# Altium footprint library 接口.PCBLIB: 266 footprints (part 5 of 17)
Each footprint in its own frame and in the unit in brackets; x right, y up, seen from the top. Pads: shape width x height; smd on the part's side, far side on the other; paste and mask are expansions set on the pad; w line width, h text height; cw(c..) or ccw(c..) is an arc to the next point about the centre after c.
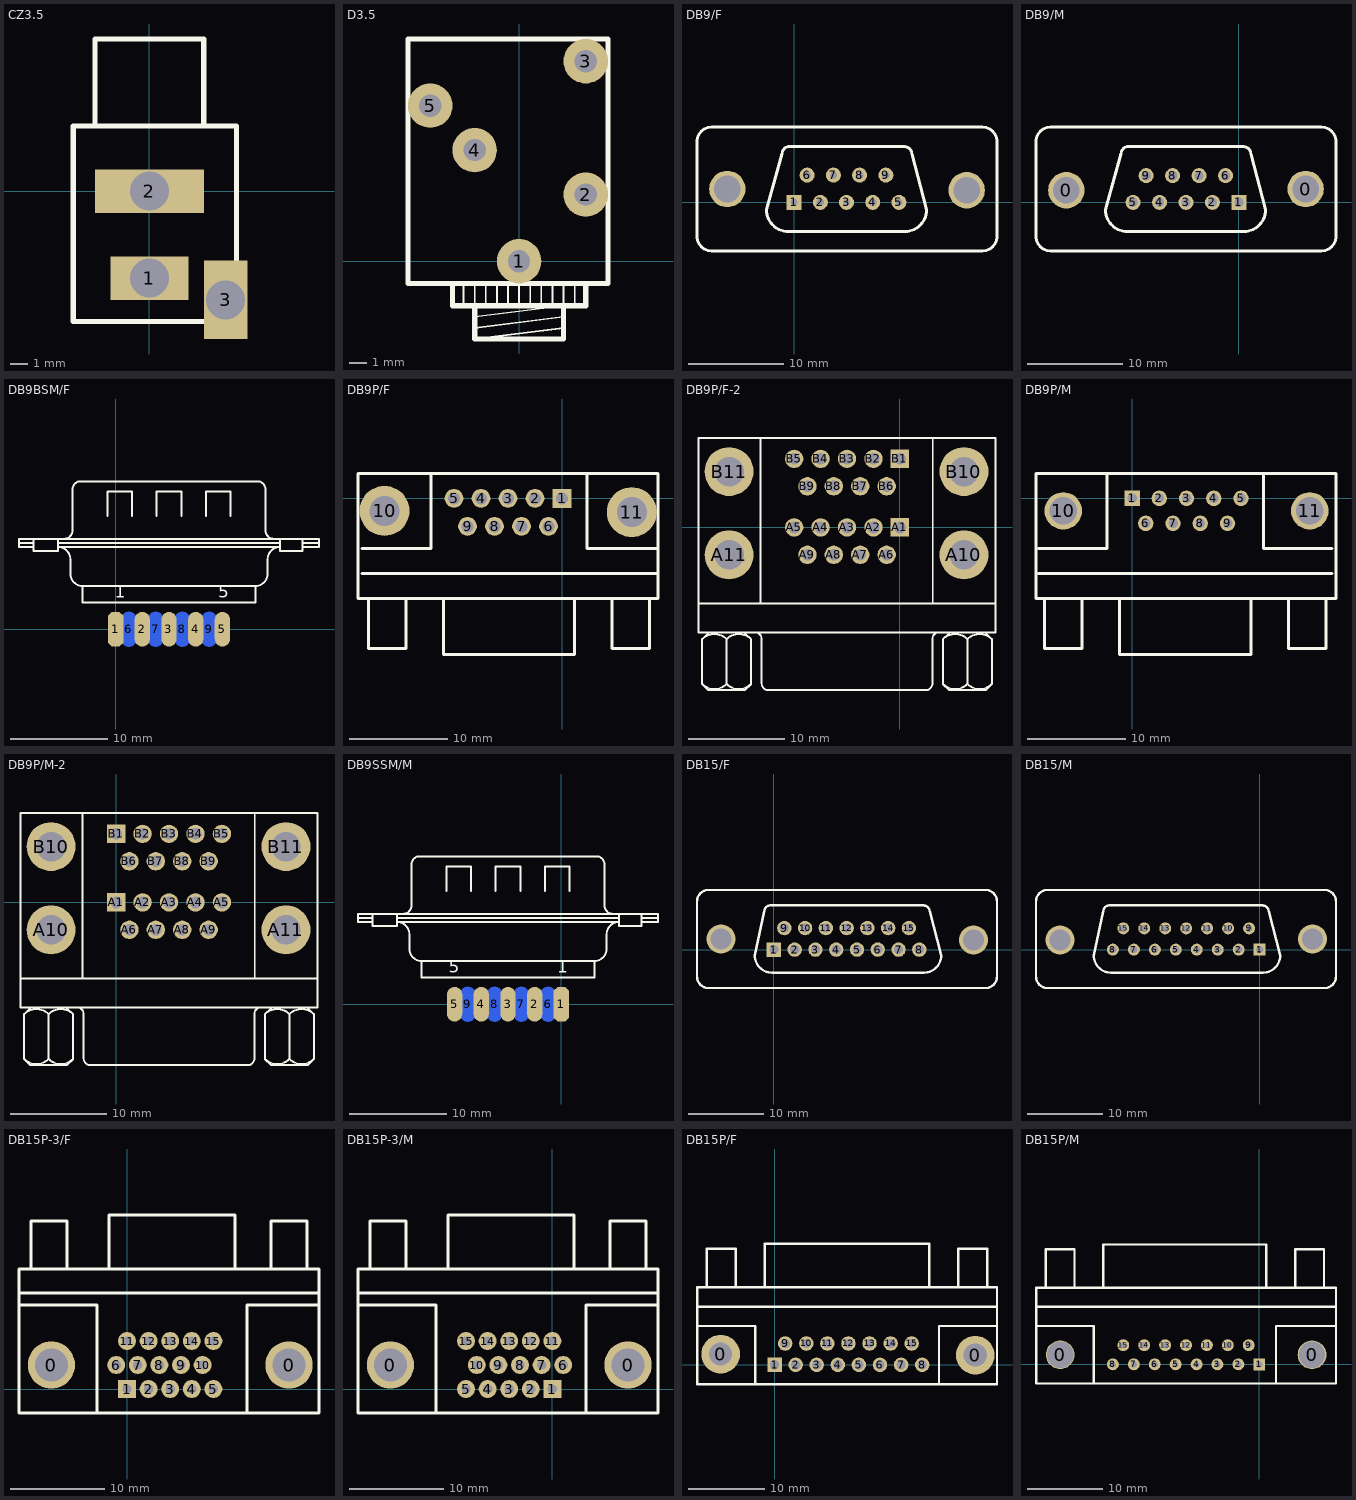
[diagram p4: the footprints below, top view; thin cyan lines are the x and y axes]

## CZ3.5 [mil]
pads (3):
  rect 180x100 hole 90: 1(0,-200)
  rect 250x100 hole 90: 2(0,0)
  rect 100x180 hole 90: 3(175,-250)
TopOverlay:
  lines w12: -125,150 -125,350 125,350 125,150 ; -175,-300 200,-300 200,150 -175,150 -175,-300

## D3.5 [mil]
pads (5):
  round 100 hole 50: 1(0,0) 2(150,150) 3(150,450) 4(-100,250) 5(-200,350)
TopOverlay:
  lines w4: -125,-100 -125,-50 ; -100,-175 100,-150 ; -100,-150 100,-125 ; -100,-125 100,-100 100,-50 ; -100,-100 -100,-50 ; -75,-100 -75,-50 ; -50,-100 -50,-50 ; -25,-100 -25,-50 ; 0,-100 0,-50 ; 25,-100 25,-50 ; 50,-100 50,-50 ; 75,-100 75,-50 ; 125,-100 125,-50
  lines w12: -150,-50 -150,-100 150,-100 150,-50 ; -100,-100 -100,-175 100,-175 100,-100 ; -250,-50 200,-50 200,500 -250,500 -250,-50

## DB9/F [mil]
pads (11):
  rect 62x62 hole 30: 1(0,0)
  round 62 hole 30: 2(108,0) 3(216,0) 4(324,0) 5(432,0) 6(54,112) 7(162,112) 8(270,112) 9(378,112)
  round 150 hole 110: ""(-275,55) ""(711,50)
TopOverlay:
  lines w12: -50,200 -114,-30 ccw(c-24,-30) -24,-120 456,-120 ccw(c456,-30) 546,-30 486,200 ; -49,201 cw(c-20,201) -20,230 456,230 ; 456,229 cw(c456,200) 485,200 ; -400,-140 ccw(c-340,-140) -340,-200 776,-200 ccw(c776,-140) 836,-140 836,250 ccw(c776,250) 776,310 -340,310 ccw(c-340,250) -400,250 -400,-140

## DB9/M [mil]
pads (11):
  round 150 hole 110: 0(-711,50) 0(275,55)
  rect 62x62 hole 38: 1(0,0)
  round 62 hole 38: 2(-109,0) 3(-218,0) 4(-327,0) 5(-436,0) 6(-55,110) 7(-164,110) 8(-273,110) 9(-382,110)
TopOverlay:
  lines w12: -486,200 -550,-30 ccw(c-460,-30) -460,-120 20,-120 ccw(c20,-30) 110,-30 50,200 ; -485,201 cw(c-456,201) -456,230 20,230 ; 20,229 cw(c20,200) 49,200 ; -836,-140 ccw(c-776,-140) -776,-200 340,-200 ccw(c340,-140) 400,-140 400,250 ccw(c340,250) 340,310 -776,310 ccw(c-776,250) -836,250 -836,-140

## DB9BSM/F [mil]
pads (9):
  oct 62.5x141.67 smd: 1(0,0)
  oval 62.5x141.67 smd: 2(108.33,0) 3(216.67,0) 4(325,0) 5(433.33,0)
  oval 62.5x141.67 smd far side: 6(54.17,0) 7(162.5,0) 8(270.83,0) 9(379.17,0)
TopOverlay:
  lines w8: -391.67,350 -333.33,350 ; -333.33,333.33 -391.67,333.33 -391.67,366.67 825,366.67 825,333.33 758.33,333.33 ; -333.33,366.67 -333.33,316.67 -233.33,316.67 -233.33,366.67 ; -233.33,350 666.67,350 ; -208.33,366.67 ccw(c-208.33,400) -175,400 -175,566.67 cw(c-141.67,566.67) -141.67,600 575,600 cw(c575,566.67) 608.33,566.67 608.33,400 ccw(c641.67,400) 641.67,366.67 ; -33.33,458.33 -33.33,558.33 66.67,558.33 66.67,458.33 ; 166.67,458.33 166.67,558.33 266.67,558.33 266.67,458.33 ; 366.67,458.33 366.67,558.33 466.67,558.33 466.67,458.33 ; 666.67,366.67 666.67,316.67 758.33,316.67 758.33,366.67 ; 758.33,350 825,350 ; -133.33,175 cw(c-133.33,225) -183.33,225 -183.33,283.33 ccw(c-233.33,283.33) -233.33,333.33 666.67,333.33 ccw(c666.67,283.33) 616.67,283.33 616.67,225 cw(c566.67,225) 566.67,175 ; -133.33,175 566.67,175 ; -133.33,175 -133.33,108.33 566.67,108.33 566.67,175
  text "5" at 416.67,128.33 h50
  text "1" at -3.33,128.33 h50

## DB9P/F [mil]
pads (11):
  rect 75x75 hole 48: 1(0,0)
  round 75 hole 48: 2(-108,0) 3(-216,0) 4(-324,0) 5(-432,0) 6(-54,-112) 7(-162,-112) 8(-270,-112) 9(-378,-112)
  round 200 hole 120: 10(-710,-50) 11(279,-55)
TopOverlay:
  lines w12: -800,-300 375,-300 ; -800,-200 -525,-200 -525,100 ; -775,-400 -775,-600 -625,-600 -625,-400 ; -475,-400 -475,-625 50,-625 50,-400 ; 100,100 100,-200 375,-200 ; 200,-400 200,-600 350,-600 350,-400 ; -816,-400 -816,100 384,100 384,-400 -816,-400

## DB9P/F-2 [mil]
pads (22):
  rect 75x75 hole 48: A1(0,0) B1(0,280)
  round 75 hole 48: A2(-108,0) A3(-216,0) A4(-324,0) A5(-432,0) A6(-54,-112) A7(-162,-112) A8(-270,-112) A9(-378,-112) B2(-108,280) B3(-216,280) B4(-324,280) B5(-432,280) B6(-54,168) B7(-162,168) B8(-270,168) B9(-378,168)
  round 200 hole 120: A10(262,-112) A11(-698,-112) B10(262,228) B11(-698,228)
TopOverlay:
  lines w7.87: -822.3,-311.02 390.3,-311.02 ; -808.21,-640.35 -783.21,-665.35 -633.21,-665.35 -608.21,-640.35 ; -808.21,-639.76 -808.21,-456.67 -783.21,-431.67 ; -808.21,-598.34 -808.21,-590 ; -708.21,-639.76 -708.21,-456.67 ; -633.21,-431.67 -608.21,-456.67 -608.21,-639.76 ; -592.38,-429.33 cw(c-592.38,-456.69) -565.02,-456.69 -565.02,-637.8 ; -570.33,-311.02 -570.33,366.14 ; -564.82,-637.99 ccw(c-537.46,-637.99) -537.46,-665.35 105.46,-665.35 ccw(c105.46,-637.99) 132.82,-637.99 ; 133.02,-637.8 133.02,-456.69 cw(c160.38,-456.69) 160.38,-429.33 ; 134.39,-311.02 134.39,366.14 ; 176.04,-640.35 201.04,-665.35 351.04,-665.35 376.04,-640.35 ; 176.04,-639.76 176.04,-456.67 201.04,-431.67 ; 176.04,-598.34 176.04,-590 ; 276.04,-639.76 276.04,-456.67 ; 351.04,-431.67 376.04,-456.67 376.04,-639.76 ; -822.3,-429.13 -822.3,366.14 390.3,366.14 390.3,-429.13 -822.3,-429.13
  lines w8: -808.3,-456.59 cw(c-758.21,-506.67) -708.13,-456.59 ; -808.21,-639.76 ccw(c-758.13,-589.68) -708.04,-639.76 ; -708.39,-639.76 ccw(c-658.3,-589.68) -608.21,-639.76 ; -708.3,-456.59 cw(c-658.21,-506.67) -608.13,-456.59 ; 175.95,-456.59 cw(c226.04,-506.67) 276.13,-456.59 ; 176.04,-639.76 ccw(c226.13,-589.68) 276.21,-639.76 ; 275.87,-639.76 ccw(c325.95,-589.68) 376.04,-639.76 ; 275.95,-456.59 cw(c326.04,-506.67) 376.13,-456.59

## DB9P/M [mil]
pads (11):
  rect 62x62 hole 38: 1(0,0)
  round 62 hole 38: 2(109,0) 3(218,0) 4(327,0) 5(436,0) 6(55,-100) 7(164,-100) 8(273,-100) 9(382,-100)
  round 150 hole 110: 10(-275,-50) 11(711,-50)
TopOverlay:
  lines w12: -375,-300 800,-300 ; -375,-200 -100,-200 -100,100 ; -350,-400 -350,-600 -200,-600 -200,-400 ; -50,-400 -50,-625 475,-625 475,-400 ; 525,100 525,-200 800,-200 ; 625,-400 625,-600 775,-600 775,-400 ; -384,-400 -384,100 816,100 816,-400 -384,-400

## DB9P/M-2 [mil]
pads (22):
  rect 75x75 hole 48: A1(0,0) B1(0,280)
  round 75 hole 48: A2(108,0) A3(216,0) A4(324,0) A5(432,0) A6(54,-112) A7(162,-112) A8(270,-112) A9(378,-112) B2(108,280) B3(216,280) B4(324,280) B5(432,280) B6(54,168) B7(162,168) B8(270,168) B9(378,168)
  round 200 hole 120: A10(-266,-112) A11(694,-112) B10(-266,228) B11(694,228)
TopOverlay:
  lines w7.87: -390.3,-311.02 822.3,-311.02 ; -376.21,-640.35 -351.21,-665.35 -201.21,-665.35 -176.21,-640.35 ; -376.21,-639.76 -376.21,-456.67 -351.21,-431.67 ; -376.21,-598.34 -376.21,-590 ; -276.21,-639.76 -276.21,-456.67 ; -201.21,-431.67 -176.21,-456.67 -176.21,-639.76 ; -160.38,-429.33 cw(c-160.38,-456.69) -133.02,-456.69 -133.02,-637.8 ; -138.33,-311.02 -138.33,366.14 ; -132.82,-637.99 ccw(c-105.46,-637.99) -105.46,-665.35 537.46,-665.35 ccw(c537.46,-637.99) 564.82,-637.99 ; 565.02,-637.8 565.02,-456.69 cw(c592.38,-456.69) 592.38,-429.33 ; 566.39,-311.02 566.39,366.14 ; 608.04,-640.35 633.04,-665.35 783.04,-665.35 808.04,-640.35 ; 608.04,-639.76 608.04,-456.67 633.04,-431.67 ; 608.04,-598.34 608.04,-590 ; 708.04,-639.76 708.04,-456.67 ; 783.04,-431.67 808.04,-456.67 808.04,-639.76 ; -390.3,-429.13 -390.3,366.14 822.3,366.14 822.3,-429.13 -390.3,-429.13
  lines w8: -376.3,-456.59 cw(c-326.21,-506.67) -276.13,-456.59 ; -376.21,-639.76 ccw(c-326.13,-589.68) -276.04,-639.76 ; -276.39,-639.76 ccw(c-226.3,-589.68) -176.21,-639.76 ; -276.3,-456.59 cw(c-226.21,-506.67) -176.13,-456.59 ; 607.95,-456.59 cw(c658.04,-506.67) 708.13,-456.59 ; 608.04,-639.76 ccw(c658.13,-589.68) 708.21,-639.76 ; 707.87,-639.76 ccw(c757.95,-589.68) 808.04,-639.76 ; 707.95,-456.59 cw(c758.04,-506.67) 808.13,-456.59

## DB9SSM/M [mil]
pads (9):
  oct 62.5x141.67 smd: 1(0,0)
  oval 62.5x141.67 smd: 2(-108.33,0) 3(-216.67,0) 4(-325,0) 5(-433.33,0)
  oval 62.5x141.67 smd far side: 6(-54.17,0) 7(-162.5,0) 8(-270.83,0) 9(-379.17,0)
TopOverlay:
  lines w8: -825,350 -766.67,350 ; -766.67,333.33 -825,333.33 -825,366.67 391.67,366.67 391.67,333.33 325,333.33 ; -766.67,366.67 -766.67,316.67 -666.67,316.67 -666.67,366.67 ; -666.67,350 233.33,350 ; -641.67,366.67 ccw(c-641.67,400) -608.33,400 -608.33,566.67 cw(c-575,566.67) -575,600 141.67,600 cw(c141.67,566.67) 175,566.67 175,400 ccw(c208.33,400) 208.33,366.67 ; -466.67,458.33 -466.67,558.33 -366.67,558.33 -366.67,458.33 ; -266.67,458.33 -266.67,558.33 -166.67,558.33 -166.67,458.33 ; -66.67,458.33 -66.67,558.33 33.33,558.33 33.33,458.33 ; 233.33,366.67 233.33,316.67 325,316.67 325,366.67 ; 325,350 391.67,350 ; -566.67,175 cw(c-566.67,225) -616.67,225 -616.67,283.33 ccw(c-666.67,283.33) -666.67,333.33 233.33,333.33 ccw(c233.33,283.33) 183.33,283.33 183.33,225 cw(c133.33,225) 133.33,175 ; -566.67,175 -566.67,108.33 133.33,108.33 133.33,175 ; -566.67,175 133.33,175
  text "5" at -456.67,128.33 h50
  text "1" at -16.67,128.33 h50

## DB15/F [mil]
pads (17):
  rect 75x75 hole 48: 1(0,0)
  round 75 hole 48: 2(108,0) 3(216,0) 4(324,0) 5(432,0) 6(540,0) 7(648,0) 8(756,0) 9(54,112) 10(162,112) 11(270,112) 12(378,112) 13(486,112) 14(594,112) 15(702,112)
  round 150 hole 110: ""(-275,55) ""(1038,50)
TopOverlay:
  lines w12: -50,200 -100,-30 ccw(c-10,-30) -10,-120 780,-120 ccw(c780,-30) 870,-30 810,200 ; -49,201 cw(c-20,201) -20,230 780,230 ; 780,229 cw(c780,200) 809,200 ; -400,-140 ccw(c-340,-140) -340,-200 1100,-200 ccw(c1100,-140) 1160,-140 1160,250 ccw(c1100,250) 1100,310 -340,310 ccw(c-340,250) -400,250 -400,-140

## DB15/M [mil]
pads (17):
  rect 62x62 hole 38: 1(0,0)
  round 62 hole 38: 2(-109,0) 3(-218,0) 4(-327,0) 5(-436,0) 6(-545,0) 7(-654,0) 8(-763,0) 9(-55,110) 10(-164,110) 11(-273,110) 12(-382,110) 13(-491,110) 14(-600,110) 15(-709,110)
  round 150 hole 110: ""(-1038,50) ""(275,55)
TopOverlay:
  lines w12: -813,200 -863,-30 ccw(c-773,-30) -773,-120 17,-120 ccw(c17,-30) 107,-30 47,200 ; -812,201 cw(c-783,201) -783,230 17,230 ; 17,229 cw(c17,200) 46,200 ; -1163,-140 ccw(c-1103,-140) -1103,-200 337,-200 ccw(c337,-140) 397,-140 397,250 ccw(c337,250) 337,310 -1103,310 ccw(c-1103,250) -1163,250 -1163,-140

## DB15P-3/F [mm]
pads (17):
  round 5 hole 3.5: 0(-8.001,2.54) 0(17.145,2.54)
  rect 1.905x1.905 hole 1: 1(0,0)
  round 1.905 hole 1: 2(2.286,0) 3(4.572,0) 4(6.858,0) 5(9.144,0) 6(-1.143,2.54) 7(1.143,2.54) 8(3.429,2.54) 9(5.715,2.54) 10(8.001,2.54) 11(0,5.08) 12(2.286,5.08) 13(4.572,5.08) 14(6.858,5.08) 15(9.144,5.08)
TopOverlay:
  lines w0.305: -11.43,8.89 -3.175,8.89 -3.175,-2.54 ; -11.43,10.16 20.32,10.16 ; -10.16,12.7 -10.16,17.78 -6.35,17.78 -6.35,12.7 ; -1.905,12.7 -1.905,18.415 11.43,18.415 11.43,12.7 ; 12.7,-2.54 12.7,8.89 20.32,8.89 ; 15.24,12.7 15.24,17.78 19.05,17.78 19.05,12.7 ; -11.43,-2.54 20.32,-2.54 20.32,12.7 -11.43,12.7 -11.43,-2.54

## DB15P-3/M [mm]
pads (17):
  round 5 hole 3.5: 0(-17.145,2.54) 0(8.001,2.54)
  rect 1.905x1.905 hole 1: 1(0,0)
  round 1.905 hole 1: 2(-2.286,0) 3(-4.572,0) 4(-6.858,0) 5(-9.144,0) 6(1.143,2.54) 7(-1.143,2.54) 8(-3.429,2.54) 9(-5.715,2.54) 10(-8.001,2.54) 11(0,5.08) 12(-2.286,5.08) 13(-4.572,5.08) 14(-6.858,5.08) 15(-9.144,5.08)
TopOverlay:
  lines w0.305: -20.574,8.89 -12.319,8.89 -12.319,-2.54 ; -20.574,10.16 11.176,10.16 ; -19.304,12.7 -19.304,17.78 -15.494,17.78 -15.494,12.7 ; -11.049,12.7 -11.049,18.415 2.286,18.415 2.286,12.7 ; 3.556,-2.54 3.556,8.89 11.176,8.89 ; 6.096,12.7 6.096,17.78 9.906,17.78 9.906,12.7 ; -20.574,-2.54 11.176,-2.54 11.176,12.7 -20.574,12.7 -20.574,-2.54

## DB15P/F [mil]
pads (17):
  round 200 hole 120: 0(-279,55) 0(1038,50)
  rect 75x75 hole 48: 1(0,0)
  round 75 hole 48: 2(109,0) 3(218,0) 4(327,0) 5(436,0) 6(545,0) 7(654,0) 8(763,0) 9(55,110) 10(164,110) 11(273,110) 12(382,110) 13(491,110) 14(600,110) 15(709,110)
TopOverlay:
  lines w12: -401,200 -100,200 -100,-100 ; -401,300 1149,300 ; -350,400 -350,600 -200,600 -200,400 ; -50,400 -50,625 800,625 800,400 ; 850,-100 850,200 1149,200 ; 950,400 950,600 1100,600 1100,400 ; 1149,-100 -400,-100 -400,400 1149,400 ; 1150,-100 1150,400

## DB15P/M [mil]
pads (17):
  round 150 hole 137.79: 0(-1038,50) 0(275,50)
  rect 62x62 hole 32: 1(0,0)
  round 62 hole 32: 2(-109,0) 3(-218,0) 4(-327,0) 5(-436,0) 6(-545,0) 7(-654,0) 8(-763,0) 9(-55,100) 10(-164,100) 11(-273,100) 12(-382,100) 13(-491,100) 14(-600,100) 15(-709,100)
TopOverlay:
  lines w12: -1164,200 -863,200 -863,-100 ; -1164,300 400,300 ; -1113,400 -1113,600 -963,600 -963,400 ; -813,400 -813,625 37,625 37,400 ; 87,-100 87,200 400,200 ; 187,400 187,600 337,600 337,400 ; -1163,-100 -1163,400 400,400 400,-100 -1163,-100